# EAGLE library part BHI360 (library BHI360)
IMUs - Inertial Measurement Units Programmable smart sensor combining accelerometer, gyroscope and fusion software Source: Datasheet <https://www.bosch-sensortec.com/media/boschsensortec/downloads/datasheets/bst-bhi360-ds000.pdf>
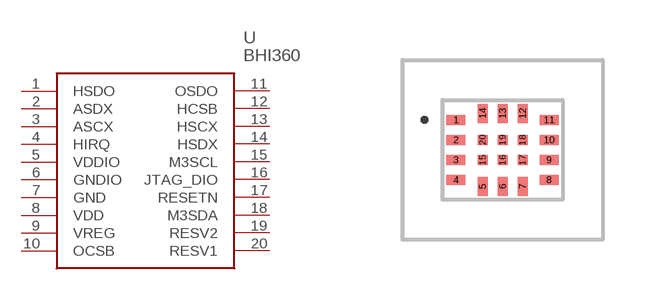
[diagram p0: symbol with the pads of BHI360; footprint BHI360]

Designator prefix U

## BHI360 (Description: IMUs - Inertial Measurement Units Programmable smart sensor combining accelerometer, gyroscope and fusion software; Height: 1mm; Manufacturer_Name: BOSCH; Manufacturer_Part_Number: BHI360; Mouser_Part_Number: 262-BHI360; Mouser_Price-Stock: https://www.mouser.co.uk/ProductDetail/Bosch-Sensortec/BHI360?qs=ulEaXIWI0c93cz3Dqv%252BGgg%3D%3D)  [BHI360]
1  HSDO
2  ASDX
3  ASCX
4  HIRQ
5  VDDIO
6  GNDIO
7  GND
8  VDD
9  VREG
10  OCSB
11  OSDO
12  HCSB
13  HSCX
14  HSDX
15  M3SCL
16  JTAG_DIO
17  RESETN
18  M3SDA
19  RESV2
20  RESV1

## Footprint BHI360 (pad centres in mm)
BHI360-3
smd 0.475 x 0.25: 1 -1.163,0.75; 2 -1.163,0.25; 3 -1.163,-0.25; 4 -1.163,-0.75; 8 1.163,-0.75; 9 1.163,-0.25; 10 1.163,0.25; 11 1.163,0.75
smd 0.25 x 0.475: 5 -0.5,-0.913; 6 0,-0.913; 7 0.5,-0.913; 12 0.5,0.912; 13 0,0.912; 14 -0.5,0.912
smd 0.25 x 0.25: 15 -0.5,-0.25; 16 0,-0.25; 17 0.5,-0.25; 18 0.5,0.25; 19 0,0.25; 20 -0.5,0.25